# Altium integrated library BMD-300-Altium.IntLib: 1 symbol
Pins are listed as number, name and electrical type; pins without a type are passive.

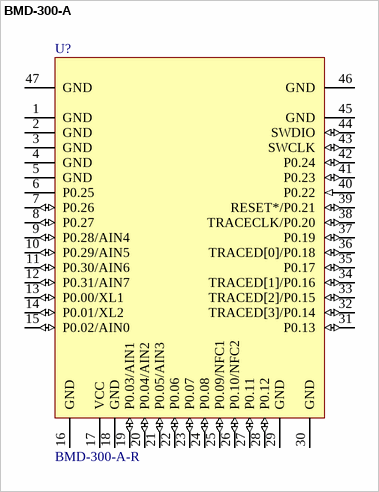
[diagram p0: symbol BMD-300-A]

## BMD-300-A
designator U?, comment Manufacturer P/N: BMD-300-A-R  (hidden comment: BMD-300)
Bluetooth 4.2 LE Module, nRF52832, 512kB Flash, 64kB RAM; Part Number: BMD-300-A; Manufacturer: Rigado; Internal Antenna: Yes; Protocol: BLE 4.2; RF Freq: 2.4GHz; Added By: Cam N; Size: 14mm x 9.8mm; Height: 1.9mm; Added Date: 10/14/2015
footprint BMD-300 (BMD-300, LGA, 47pin ,1.1mm Pitch, 14mm x 9.8mm)
pins: 1 GND (power), 2 GND (power), 3 GND (power), 4 GND (power), 5 GND (power), 6 P0.25 (power), 7 P0.26 (io), 8 P0.27 (io), 9 P0.28/AIN4 (io), 10 P0.29/AIN5 (io), 11 P0.30/AIN6 (io), 12 P0.31/AIN7 (io), 13 P0.00/XL1 (io), 14 P0.01/XL2 (io), 15 P0.02/AIN0 (io), 16 GND (power), 17 VCC (power), 18 GND (power), 19 P0.03/AIN1 (io), 20 P0.04/AIN2 (io), 21 P0.05/AIN3 (io), 22 P0.06 (io), 23 P0.07 (io), 24 P0.08 (io), 25 P0.09/NFC1 (io), 26 P0.10/NFC2 (io), 27 P0.11 (io), 28 P0.12 (io), 29 GND (power), 30 GND (power), 31 P0.13 (io), 32 TRACED[3]/P0.14 (io), 33 TRACED[2]/P0.15 (io), 34 TRACED[1]/P0.16 (io), 35 P0.17 (io), 36 TRACED[0]/P0.18 (io), 37 P0.19 (io), 38 TRACECLK/P0.20 (io), 39 RESET*/P0.21 (io), 40 P0.22 (in), 41 P0.23 (io), 42 P0.24 (io), 43 SWCLK (io), 44 SWDIO (io), 45 GND (power), 46 GND (power), 47 GND (power)